# Altium integrated library TI Power Management Power Modules.IntLib: 831 symbols (part 22 of 44)
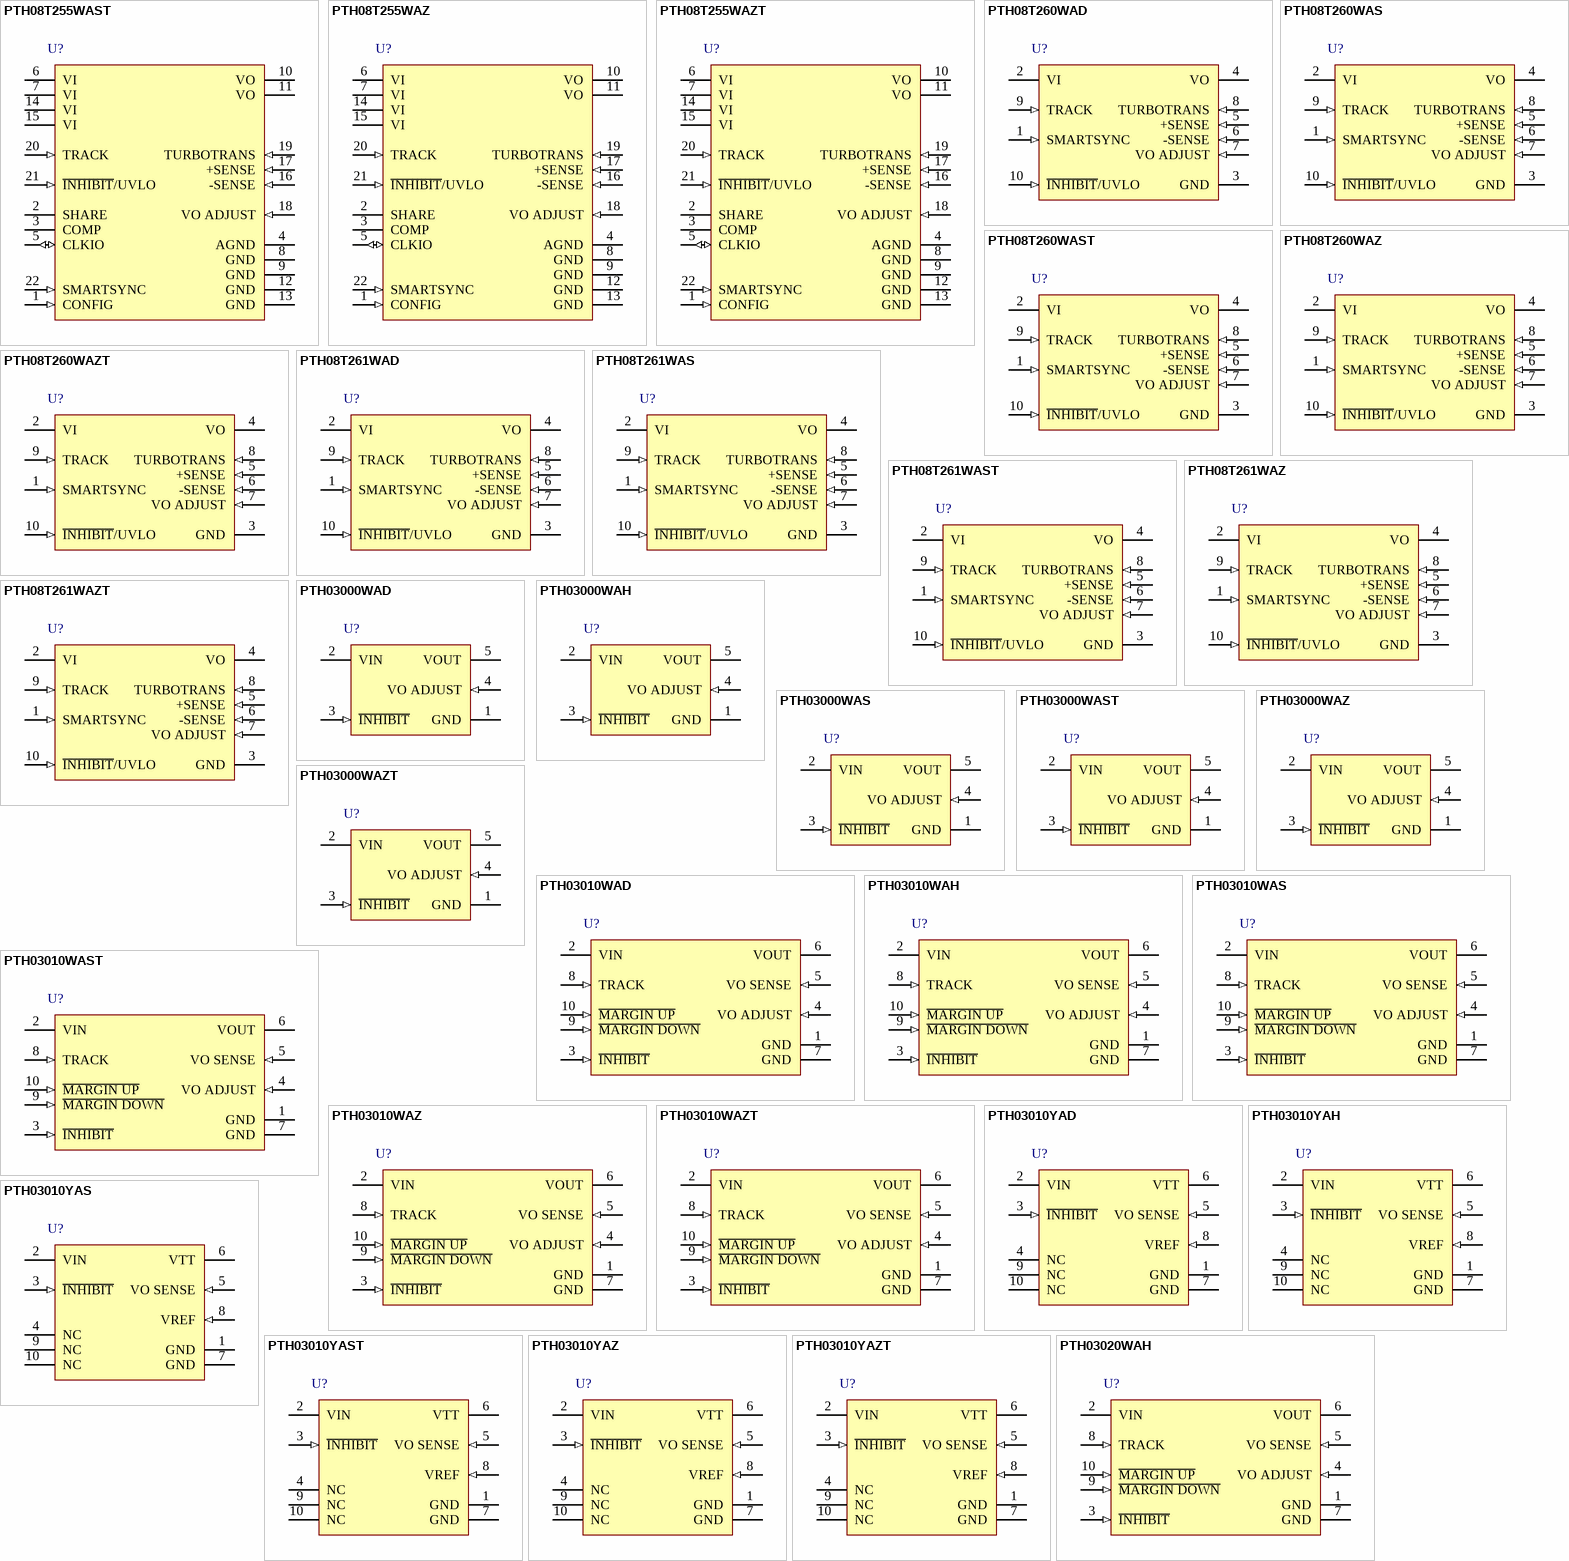
[diagram p44: symbols PTH08T255WAST to PTH03020WAH]

## PTH03010WAST
designator U?
15 A, 3.3 V Input Non-Isolated Wide-Output Adjust Power Module, -40 to 85 degC, 10-pin Module (EUJ10); Manufacturer: Texas Instruments; PartNumber: PTH03010WAST; Eco-Plan: TBD; Iout(Max)(A): 15; Regulated Outputs(#): 1; SubFamily: Non-Isolated POL; Vin(Max)(V): 3.65; Vin(Min)(V): 2.95; VO Adjustable: TRUE; Vout(Max)(V): 2.5; Vout(Min)(V): 0.8; DatasheetVersion: SLTS203C; PackageVersion: 4204985-3/E; PackageReference: EUJ10; PackageDescription: 10-Pin Plastic Special Shape, Body 15.75 x 34.8 mm; Supplier 1: Digi-Key; Supplier Part Number 1: PTH03010WAST-ND; Supplier 2: Newark; Supplier Part Number 2: 01J0622; Supplier 3: Mouser; Supplier Part Number 3: 595-PTH03010WAST; Mounting Technology: Surface Mount; ComponentLink1Description: Manufacturer URL; ComponentLink1URL: http://www.ti.com/; ComponentLink2Description: Datasheet; ComponentLink2URL: http://www.ti.com/general/docs/lit/getliterature.tsp?genericPartNumber=PTH03010W&fileType=pdf; ComponentLink3Description: Package Specification; ComponentLink3URL: http://www.ti.com/lit/ml/mpds136d/mpds136d.pdf; ComponentLink4Description: URL Link1; ComponentLink4URL: Samples URL:http://www.ti.com/product/pth03010w#samples
footprint TI-EUJ10_V (10-Leads Double Sided Module, Body 34.8x15.75mm)
pins: 1 GND (power) "This is the common ground connection for the Vin and Vout power connections. It is also the 0 VDC reference for the control inputs", 2 VIN (power) "The positive input voltage power node to the module, which is referenced to common GND.", 3 ~{INHIBIT} (in) "The Inhibit pin is an open-collector/drain negative logic input that is referenced to GND. Applying a lowlevel ground signal to this input disables the module’s output and turns off the output voltage. When the Inhibit (See Datasheet)", 4 VO ADJUST (in) "A 0.1 W 1 % resistor must be directly connected between this pin and pin 7 (GND) to set the output voltage to a value higher than 0.8 V. The temperature stability of the resistor should be 100 ppm/degreesC (or better). The (See Datasheet)", 5 VO SENSE (in) "The sense input allows the regulation circuit to compensate for voltage drop between the module and the load. For optimal voltage accuracy Vo Sense should be connected to Vout. It can also be left disconnected.", 6 VOUT (power) "The regulated positive power output with respect to the GND node.", 7 GND (power) "This is the common ground connection for the Vin and Vout power connections. It is also the 0 VDC reference for the control inputs.", 8 TRACK (in) "This is an analog control input that enables the output voltage to follow an external voltage. This pin becomes active typically 20 ms after the input voltage has been applied, and allows direct control of the output voltage (See Datasheet)", 9 ~{MARGIN DOWN} (in) "When this input is asserted to GND, the output voltage is decreased by 5% from the nominal. The input requires an open-collector (open-drain) interface. It is not TTL compatible. A lower percent change can be accomodated (See Datasheet)", 10 ~{MARGIN UP} (in) "When this input is asserted to GND, the output voltage is increased by 5%. The input requires an open-collector (open-drain) interface. It is not TTL compatible. The percent change can be reduced with a series resistor. For (See Datasheet)"

## PTH03010WAZ
designator U?
15 A, 3.3 V Input Non-Isolated Wide-Output Adjust Power Module, -40 to 85 degC, 10-pin Module (EUJ10), Pb-Free (RoHS); Manufacturer: Texas Instruments; PartNumber: PTH03010WAZ; Iout(Max)(A): 15; Regulated Outputs(#): 1; SubFamily: Non-Isolated POL; Vin(Max)(V): 3.65; Vin(Min)(V): 2.95; VO Adjustable: TRUE; Vout(Max)(V): 2.5; Vout(Min)(V): 0.8; DatasheetVersion: SLTS203C; PackageVersion: 4204985-3/E; PackageReference: EUJ10; PackageDescription: 10-Pin Plastic Special Shape, Body 15.75 x 34.8 mm; Supplier 1: Digi-Key; Supplier Part Number 1: 296-20371-ND; Supplier 2: Newark; Supplier Part Number 2: 37K0695; Supplier 3: Mouser; Supplier Part Number 3: 595-PTH03010WAZ; Eco-Plan: Pb-Free (RoHS); Mounting Technology: Surface Mount; ComponentLink1Description: Manufacturer URL; ComponentLink1URL: http://www.ti.com/; ComponentLink2Description: Datasheet; ComponentLink2URL: http://www.ti.com/general/docs/lit/getliterature.tsp?genericPartNumber=PTH03010W&fileType=pdf; ComponentLink3Description: Package Specification; ComponentLink3URL: http://www.ti.com/lit/ml/mpds136d/mpds136d.pdf; ComponentLink4Description: URL Link1; ComponentLink4URL: Samples URL:http://www.ti.com/product/pth03010w#samples
footprint TI-EUJ10_V (10-Leads Double Sided Module, Body 34.8x15.75mm)
pins: 1 GND (power) "This is the common ground connection for the Vin and Vout power connections. It is also the 0 VDC reference for the control inputs", 2 VIN (power) "The positive input voltage power node to the module, which is referenced to common GND.", 3 ~{INHIBIT} (in) "The Inhibit pin is an open-collector/drain negative logic input that is referenced to GND. Applying a lowlevel ground signal to this input disables the module’s output and turns off the output voltage. When the Inhibit (See Datasheet)", 4 VO ADJUST (in) "A 0.1 W 1 % resistor must be directly connected between this pin and pin 7 (GND) to set the output voltage to a value higher than 0.8 V. The temperature stability of the resistor should be 100 ppm/degreesC (or better). The (See Datasheet)", 5 VO SENSE (in) "The sense input allows the regulation circuit to compensate for voltage drop between the module and the load. For optimal voltage accuracy Vo Sense should be connected to Vout. It can also be left disconnected.", 6 VOUT (power) "The regulated positive power output with respect to the GND node.", 7 GND (power) "This is the common ground connection for the Vin and Vout power connections. It is also the 0 VDC reference for the control inputs.", 8 TRACK (in) "This is an analog control input that enables the output voltage to follow an external voltage. This pin becomes active typically 20 ms after the input voltage has been applied, and allows direct control of the output voltage (See Datasheet)", 9 ~{MARGIN DOWN} (in) "When this input is asserted to GND, the output voltage is decreased by 5% from the nominal. The input requires an open-collector (open-drain) interface. It is not TTL compatible. A lower percent change can be accomodated (See Datasheet)", 10 ~{MARGIN UP} (in) "When this input is asserted to GND, the output voltage is increased by 5%. The input requires an open-collector (open-drain) interface. It is not TTL compatible. The percent change can be reduced with a series resistor. For (See Datasheet)"

## PTH03010WAZT
designator U?
15 A, 3.3 V Input Non-Isolated Wide-Output Adjust Power Module, -40 to 85 degC, 10-pin Module (EUJ10), Pb-Free (RoHS); Manufacturer: Texas Instruments; PartNumber: PTH03010WAZT; Iout(Max)(A): 15; Regulated Outputs(#): 1; SubFamily: Non-Isolated POL; Vin(Max)(V): 3.65; Vin(Min)(V): 2.95; VO Adjustable: TRUE; Vout(Max)(V): 2.5; Vout(Min)(V): 0.8; DatasheetVersion: SLTS203C; PackageVersion: 4204985-3/E; PackageReference: EUJ10; PackageDescription: 10-Pin Plastic Special Shape, Body 15.75 x 34.8 mm; Supplier 1: Digi-Key; Supplier Part Number 1: PTH03010WAZT-ND; Supplier 2: Newark; Supplier Part Number 2: 37K0696; Supplier 3: Mouser; Supplier Part Number 3: 595-PTH03010WAZT; Eco-Plan: Pb-Free (RoHS); Mounting Technology: Surface Mount; ComponentLink1Description: Manufacturer URL; ComponentLink1URL: http://www.ti.com/; ComponentLink2Description: Datasheet; ComponentLink2URL: http://www.ti.com/general/docs/lit/getliterature.tsp?genericPartNumber=PTH03010W&fileType=pdf; ComponentLink3Description: Package Specification; ComponentLink3URL: http://www.ti.com/lit/ml/mpds136d/mpds136d.pdf; ComponentLink4Description: URL Link1; ComponentLink4URL: Samples URL:http://www.ti.com/product/pth03010w#samples
footprint TI-EUJ10_V (10-Leads Double Sided Module, Body 34.8x15.75mm)
pins: 1 GND (power) "This is the common ground connection for the Vin and Vout power connections. It is also the 0 VDC reference for the control inputs", 2 VIN (power) "The positive input voltage power node to the module, which is referenced to common GND.", 3 ~{INHIBIT} (in) "The Inhibit pin is an open-collector/drain negative logic input that is referenced to GND. Applying a lowlevel ground signal to this input disables the module’s output and turns off the output voltage. When the Inhibit (See Datasheet)", 4 VO ADJUST (in) "A 0.1 W 1 % resistor must be directly connected between this pin and pin 7 (GND) to set the output voltage to a value higher than 0.8 V. The temperature stability of the resistor should be 100 ppm/degreesC (or better). The (See Datasheet)", 5 VO SENSE (in) "The sense input allows the regulation circuit to compensate for voltage drop between the module and the load. For optimal voltage accuracy Vo Sense should be connected to Vout. It can also be left disconnected.", 6 VOUT (power) "The regulated positive power output with respect to the GND node.", 7 GND (power) "This is the common ground connection for the Vin and Vout power connections. It is also the 0 VDC reference for the control inputs.", 8 TRACK (in) "This is an analog control input that enables the output voltage to follow an external voltage. This pin becomes active typically 20 ms after the input voltage has been applied, and allows direct control of the output voltage (See Datasheet)", 9 ~{MARGIN DOWN} (in) "When this input is asserted to GND, the output voltage is decreased by 5% from the nominal. The input requires an open-collector (open-drain) interface. It is not TTL compatible. A lower percent change can be accomodated (See Datasheet)", 10 ~{MARGIN UP} (in) "When this input is asserted to GND, the output voltage is increased by 5%. The input requires an open-collector (open-drain) interface. It is not TTL compatible. The percent change can be reduced with a series resistor. For (See Datasheet)"

## PTH03010YAD
designator U?
15 A, 3.3 V Input Bus Termination Power Module for DDR / QDR Memory, -40 to 85 degC, 10-pin Module (EUH10), Pb-Free (RoHS); Manufacturer: Texas Instruments; PartNumber: PTH03010YAD; Iout(Max)(A): 15; Regulated Outputs(#): 1; SubFamily: Non-Isolated POL; Vin(Max)(V): 3.65; Vin(Min)(V): 2.95; Vout(Max)(V): 1.8; Vout(Min)(V): 0.55; DatasheetVersion: SLTS223A; PackageVersion: 4204984-3/E; PackageReference: EUH10; PackageDescription: 10-Pin Plastic Special Shape, Body 15.75 x 34.8 mm; Supplier 1: Digi-Key; Supplier Part Number 1: PTH03010YAD-ND; Supplier 2: Newark; Supplier Part Number 2: 58K6002; Supplier 3: Mouser; Supplier Part Number 3: 595-PTH03010YAD; Eco-Plan: Pb-Free (RoHS); Mounting Technology: Through Hole; ComponentLink1Description: Manufacturer URL; ComponentLink1URL: http://www.ti.com/; ComponentLink2Description: Datasheet; ComponentLink2URL: http://www.ti.com/general/docs/lit/getliterature.tsp?genericPartNumber=PTH03010Y&fileType=pdf; ComponentLink3Description: Package Specification; ComponentLink3URL: http://www.ti.com/litv/pdf/mpds130d; ComponentLink4Description: URL Link1; ComponentLink4URL: Samples URL:http://www.ti.com/product/pth03010y#samples
footprint TI-EUH10_V (Module, 10-Leads, Body 34.8x15.75 mm)
pins: 1 GND (power) "This is the common ground connection for the VIN and VTT power connections. It is also the 0-VDC reference for the control inputs.", 2 VIN (power) "The positive input voltage power node to the module, which is referenced to common GND.", 3 ~{INHIBIT} (in) "The Inhibit pin is an open-collector/drain negative logic input that is referenced to GND. Applying a low-level ground signal to this input turns off the output voltage, VTT. Although the module is inhibited, a voltage, VDDQ (See Datasheet)", 4 NC "No connection", 5 VO SENSE (in) "The sense input allows the regulation circuit to compensate for voltage drop between the module and the load. For optimal voltage accuracy VO SENSE should be connected to VTT.", 6 VTT (power) "This is the regulated power output from the module with respect to the GND node, and the tracking termination supply for the applicantion data and address buses.It is precisely regulated to the voltage applied to the (See Datasheet)", 7 GND (power) "This is the common ground connection for the VIN and VTT power connections. It is also the 0-VDC reference for the control inputs.", 8 VREF (in) "The module senses the voltage at this input to regulate the output voltage, VTT. The voltage at VREF is also the reference voltage for the system bus receiver comparators. It is normally set to precisely half the bus driver (See Datasheet)", 9 NC "No connection", 10 NC "No connection"

## PTH03010YAH
designator U?
15 A, 3.3 V Input Bus Termination Power Module for DDR / QDR Memory, -40 to 85 degC, 10-pin Module (EUH10), Pb-Free (RoHS); Manufacturer: Texas Instruments; PartNumber: PTH03010YAH; Iout(Max)(A): 15; Regulated Outputs(#): 1; SubFamily: Non-Isolated POL; Vin(Max)(V): 3.65; Vin(Min)(V): 2.95; Vout(Max)(V): 1.8; Vout(Min)(V): 0.55; DatasheetVersion: SLTS223A; PackageVersion: 4204984-3/E; PackageReference: EUH10; PackageDescription: 10-Pin Plastic Special Shape, Body 15.75 x 34.8 mm; Supplier 1: Digi-Key; Supplier Part Number 1: 296-20372-ND; Supplier 2: Newark; Supplier Part Number 2: 10J9538; Supplier 3: Mouser; Supplier Part Number 3: 595-PTH03010YAH; Eco-Plan: Pb-Free (RoHS); Mounting Technology: Through Hole; ComponentLink1Description: Manufacturer URL; ComponentLink1URL: http://www.ti.com/; ComponentLink2Description: Datasheet; ComponentLink2URL: http://www.ti.com/general/docs/lit/getliterature.tsp?genericPartNumber=PTH03010Y&fileType=pdf; ComponentLink3Description: Package Specification; ComponentLink3URL: http://www.ti.com/litv/pdf/mpds130d; ComponentLink4Description: URL Link1; ComponentLink4URL: Samples URL:http://www.ti.com/product/pth03010y#samples
footprint TI-EUH10_V (Module, 10-Leads, Body 34.8x15.75 mm)
pins: 1 GND (power) "This is the common ground connection for the VIN and VTT power connections. It is also the 0-VDC reference for the control inputs.", 2 VIN (power) "The positive input voltage power node to the module, which is referenced to common GND.", 3 ~{INHIBIT} (in) "The Inhibit pin is an open-collector/drain negative logic input that is referenced to GND. Applying a low-level ground signal to this input turns off the output voltage, VTT. Although the module is inhibited, a voltage, VDDQ (See Datasheet)", 4 NC "No connection", 5 VO SENSE (in) "The sense input allows the regulation circuit to compensate for voltage drop between the module and the load. For optimal voltage accuracy VO SENSE should be connected to VTT.", 6 VTT (power) "This is the regulated power output from the module with respect to the GND node, and the tracking termination supply for the applicantion data and address buses.It is precisely regulated to the voltage applied to the (See Datasheet)", 7 GND (power) "This is the common ground connection for the VIN and VTT power connections. It is also the 0-VDC reference for the control inputs.", 8 VREF (in) "The module senses the voltage at this input to regulate the output voltage, VTT. The voltage at VREF is also the reference voltage for the system bus receiver comparators. It is normally set to precisely half the bus driver (See Datasheet)", 9 NC "No connection", 10 NC "No connection"

## PTH03010YAS
designator U?
15 A, 3.3 V Input Bus Termination Power Module for DDR / QDR Memory, -40 to 85 degC, 10-pin Module (EUJ10); Manufacturer: Texas Instruments; PartNumber: PTH03010YAS; Eco-Plan: TBD; Iout(Max)(A): 15; Regulated Outputs(#): 1; SubFamily: Non-Isolated POL; Vin(Max)(V): 3.65; Vin(Min)(V): 2.95; Vout(Max)(V): 1.8; Vout(Min)(V): 0.55; DatasheetVersion: SLTS223A; PackageVersion: 4204985-3/E; PackageReference: EUJ10; PackageDescription: 10-Pin Plastic Special Shape, Body 15.75 x 34.8 mm; Supplier 1: Digi-Key; Supplier Part Number 1: 296-20373-ND; Supplier 2: Newark; Supplier Part Number 2: 10J9539; Supplier 3: Mouser; Supplier Part Number 3: 595-PTH03010YAS; Mounting Technology: Surface Mount; ComponentLink1Description: Manufacturer URL; ComponentLink1URL: http://www.ti.com/; ComponentLink2Description: Datasheet; ComponentLink2URL: http://www.ti.com/general/docs/lit/getliterature.tsp?genericPartNumber=PTH03010Y&fileType=pdf; ComponentLink3Description: Package Specification; ComponentLink3URL: http://www.ti.com/lit/ml/mpds136d/mpds136d.pdf; ComponentLink4Description: URL Link1; ComponentLink4URL: Samples URL:http://www.ti.com/product/pth03010y#samples
footprint TI-EUJ10_V (10-Leads Double Sided Module, Body 34.8x15.75mm)
pins: 1 GND (power) "This is the common ground connection for the VIN and VTT power connections. It is also the 0-VDC reference for the control inputs.", 2 VIN (power) "The positive input voltage power node to the module, which is referenced to common GND.", 3 ~{INHIBIT} (in) "The Inhibit pin is an open-collector/drain negative logic input that is referenced to GND. Applying a low-level ground signal to this input turns off the output voltage, VTT. Although the module is inhibited, a voltage, VDDQ (See Datasheet)", 4 NC "No connection", 5 VO SENSE (in) "The sense input allows the regulation circuit to compensate for voltage drop between the module and the load. For optimal voltage accuracy VO SENSE should be connected to VTT.", 6 VTT (power) "This is the regulated power output from the module with respect to the GND node, and the tracking termination supply for the applicantion data and address buses.It is precisely regulated to the voltage applied to the (See Datasheet)", 7 GND (power) "This is the common ground connection for the VIN and VTT power connections. It is also the 0-VDC reference for the control inputs.", 8 VREF (in) "The module senses the voltage at this input to regulate the output voltage, VTT. The voltage at VREF is also the reference voltage for the system bus receiver comparators. It is normally set to precisely half the bus driver (See Datasheet)", 9 NC "No connection", 10 NC "No connection"

## PTH03010YAST
designator U?
15 A, 3.3 V Input Bus Termination Power Module for DDR / QDR Memory, -40 to 85 degC, 10-pin Module (EUJ10); Manufacturer: Texas Instruments; PartNumber: PTH03010YAST; Eco-Plan: TBD; Iout(Max)(A): 15; Regulated Outputs(#): 1; SubFamily: Non-Isolated POL; Vin(Max)(V): 3.65; Vin(Min)(V): 2.95; Vout(Max)(V): 1.8; Vout(Min)(V): 0.55; DatasheetVersion: SLTS223A; PackageVersion: 4204985-3/E; PackageReference: EUJ10; PackageDescription: 10-Pin Plastic Special Shape, Body 15.75 x 34.8 mm; Supplier 1: Digi-Key; Supplier Part Number 1: PTH03010YAST-ND; Supplier 2: Mouser; Supplier Part Number 2: 595-PTH03010YAST; Mounting Technology: Surface Mount; ComponentLink1Description: Manufacturer URL; ComponentLink1URL: http://www.ti.com/; ComponentLink2Description: Datasheet; ComponentLink2URL: http://www.ti.com/general/docs/lit/getliterature.tsp?genericPartNumber=PTH03010Y&fileType=pdf; ComponentLink3Description: Package Specification; ComponentLink3URL: http://www.ti.com/lit/ml/mpds136d/mpds136d.pdf; ComponentLink4Description: URL Link1; ComponentLink4URL: Samples URL:http://www.ti.com/product/pth03010y#samples
footprint TI-EUJ10_V (10-Leads Double Sided Module, Body 34.8x15.75mm)
pins: 1 GND (power) "This is the common ground connection for the VIN and VTT power connections. It is also the 0-VDC reference for the control inputs.", 2 VIN (power) "The positive input voltage power node to the module, which is referenced to common GND.", 3 ~{INHIBIT} (in) "The Inhibit pin is an open-collector/drain negative logic input that is referenced to GND. Applying a low-level ground signal to this input turns off the output voltage, VTT. Although the module is inhibited, a voltage, VDDQ (See Datasheet)", 4 NC "No connection", 5 VO SENSE (in) "The sense input allows the regulation circuit to compensate for voltage drop between the module and the load. For optimal voltage accuracy VO SENSE should be connected to VTT.", 6 VTT (power) "This is the regulated power output from the module with respect to the GND node, and the tracking termination supply for the applicantion data and address buses.It is precisely regulated to the voltage applied to the (See Datasheet)", 7 GND (power) "This is the common ground connection for the VIN and VTT power connections. It is also the 0-VDC reference for the control inputs.", 8 VREF (in) "The module senses the voltage at this input to regulate the output voltage, VTT. The voltage at VREF is also the reference voltage for the system bus receiver comparators. It is normally set to precisely half the bus driver (See Datasheet)", 9 NC "No connection", 10 NC "No connection"

## PTH03010YAZ
designator U?
15 A, 3.3 V Input Bus Termination Power Module for DDR / QDR Memory, -40 to 85 degC, 10-pin Module (EUJ10), Pb-Free (RoHS); Manufacturer: Texas Instruments; PartNumber: PTH03010YAZ; Iout(Max)(A): 15; Regulated Outputs(#): 1; SubFamily: Non-Isolated POL; Vin(Max)(V): 3.65; Vin(Min)(V): 2.95; Vout(Max)(V): 1.8; Vout(Min)(V): 0.55; DatasheetVersion: SLTS223A; PackageVersion: 4204985-3/E; PackageReference: EUJ10; PackageDescription: 10-Pin Plastic Special Shape, Body 15.75 x 34.8 mm; Supplier 1: Digi-Key; Supplier Part Number 1: 296-20374-ND; Supplier 2: Newark; Supplier Part Number 2: 37K0697; Supplier 3: Mouser; Supplier Part Number 3: 595-PTH03010YAZ; Eco-Plan: Pb-Free (RoHS); Mounting Technology: Surface Mount; ComponentLink1Description: Manufacturer URL; ComponentLink1URL: http://www.ti.com/; ComponentLink2Description: Datasheet; ComponentLink2URL: http://www.ti.com/general/docs/lit/getliterature.tsp?genericPartNumber=PTH03010Y&fileType=pdf; ComponentLink3Description: Package Specification; ComponentLink3URL: http://www.ti.com/lit/ml/mpds136d/mpds136d.pdf; ComponentLink4Description: URL Link1; ComponentLink4URL: Samples URL:http://www.ti.com/product/pth03010y#samples
footprint TI-EUJ10_V (10-Leads Double Sided Module, Body 34.8x15.75mm)
pins: 1 GND (power) "This is the common ground connection for the VIN and VTT power connections. It is also the 0-VDC reference for the control inputs.", 2 VIN (power) "The positive input voltage power node to the module, which is referenced to common GND.", 3 ~{INHIBIT} (in) "The Inhibit pin is an open-collector/drain negative logic input that is referenced to GND. Applying a low-level ground signal to this input turns off the output voltage, VTT. Although the module is inhibited, a voltage, VDDQ (See Datasheet)", 4 NC "No connection", 5 VO SENSE (in) "The sense input allows the regulation circuit to compensate for voltage drop between the module and the load. For optimal voltage accuracy VO SENSE should be connected to VTT.", 6 VTT (power) "This is the regulated power output from the module with respect to the GND node, and the tracking termination supply for the applicantion data and address buses.It is precisely regulated to the voltage applied to the (See Datasheet)", 7 GND (power) "This is the common ground connection for the VIN and VTT power connections. It is also the 0-VDC reference for the control inputs.", 8 VREF (in) "The module senses the voltage at this input to regulate the output voltage, VTT. The voltage at VREF is also the reference voltage for the system bus receiver comparators. It is normally set to precisely half the bus driver (See Datasheet)", 9 NC "No connection", 10 NC "No connection"

## PTH03010YAZT
designator U?
15 A, 3.3 V Input Bus Termination Power Module for DDR / QDR Memory, -40 to 85 degC, 10-pin Module (EUJ10), Pb-Free (RoHS); Manufacturer: Texas Instruments; PartNumber: PTH03010YAZT; Iout(Max)(A): 15; Regulated Outputs(#): 1; SubFamily: Non-Isolated POL; Vin(Max)(V): 3.65; Vin(Min)(V): 2.95; Vout(Max)(V): 1.8; Vout(Min)(V): 0.55; DatasheetVersion: SLTS223A; PackageVersion: 4204985-3/E; PackageReference: EUJ10; PackageDescription: 10-Pin Plastic Special Shape, Body 15.75 x 34.8 mm; Supplier 1: Digi-Key; Supplier Part Number 1: PTH03010YAZT-ND; Supplier 2: Mouser; Supplier Part Number 2: 595-PTH03010YAZT; Eco-Plan: Pb-Free (RoHS); Mounting Technology: Surface Mount; ComponentLink1Description: Manufacturer URL; ComponentLink1URL: http://www.ti.com/; ComponentLink2Description: Datasheet; ComponentLink2URL: http://www.ti.com/general/docs/lit/getliterature.tsp?genericPartNumber=PTH03010Y&fileType=pdf; ComponentLink3Description: Package Specification; ComponentLink3URL: http://www.ti.com/lit/ml/mpds136d/mpds136d.pdf; ComponentLink4Description: URL Link1; ComponentLink4URL: Samples URL:http://www.ti.com/product/pth03010y#samples
footprint TI-EUJ10_V (10-Leads Double Sided Module, Body 34.8x15.75mm)
pins: 1 GND (power) "This is the common ground connection for the VIN and VTT power connections. It is also the 0-VDC reference for the control inputs.", 2 VIN (power) "The positive input voltage power node to the module, which is referenced to common GND.", 3 ~{INHIBIT} (in) "The Inhibit pin is an open-collector/drain negative logic input that is referenced to GND. Applying a low-level ground signal to this input turns off the output voltage, VTT. Although the module is inhibited, a voltage, VDDQ (See Datasheet)", 4 NC "No connection", 5 VO SENSE (in) "The sense input allows the regulation circuit to compensate for voltage drop between the module and the load. For optimal voltage accuracy VO SENSE should be connected to VTT.", 6 VTT (power) "This is the regulated power output from the module with respect to the GND node, and the tracking termination supply for the applicantion data and address buses.It is precisely regulated to the voltage applied to the (See Datasheet)", 7 GND (power) "This is the common ground connection for the VIN and VTT power connections. It is also the 0-VDC reference for the control inputs.", 8 VREF (in) "The module senses the voltage at this input to regulate the output voltage, VTT. The voltage at VREF is also the reference voltage for the system bus receiver comparators. It is normally set to precisely half the bus driver (See Datasheet)", 9 NC "No connection", 10 NC "No connection"

## PTH03020WAH
designator U?
22 A, 3.3 V Input Wide-Output Adjust Plug-in Power Module, -40 to 85 degC, 10-pin Module (EUK10), Pb-Free (RoHS); Manufacturer: Texas Instruments; PartNumber: PTH03020WAH; Iout(Max)(A): 22; Regulated Outputs(#): 1; SubFamily: Non-Isolated POL; Vin(Max)(V): 3.65; Vin(Min)(V): 2.95; VO Adjustable: TRUE; Vout(Max)(V): 2.5; Vout(Min)(V): 0.8; DatasheetVersion: SLTS206C; PackageVersion: 4204986-3/C; PackageReference: EUK10; PackageDescription: 10-Pin Plastic Special Shape, Body 22.1 x 37.97 mm; Supplier 1: Digi-Key; Supplier Part Number 1: 296-20375-ND; Supplier 2: Newark; Supplier Part Number 2: 87H2505; Supplier 3: Mouser; Supplier Part Number 3: 595-PTH03020WAH; Eco-Plan: Pb-Free (RoHS); Mounting Technology: Through Hole; ComponentLink1Description: Manufacturer URL; ComponentLink1URL: http://www.ti.com/; ComponentLink2Description: Datasheet; ComponentLink2URL: http://www.ti.com/general/docs/lit/getliterature.tsp?genericPartNumber=PTH03020W&fileType=pdf; ComponentLink3Description: Package Specification; ComponentLink3URL: http://www.ti.com/litv/pdf/mpds137b; ComponentLink4Description: URL Link1; ComponentLink4URL: Samples URL:http://www.ti.com/product/pth03020w#samples
footprint TI-EUK10_V (Module, 10-Leads, Body 37.97x22.1mm)
pins: 1 GND (power) "This is the common ground connection for the Vin and Vout power connections. It is also the 0 VDC reference for the control inputs", 2 VIN (power) "The positive input voltage power node to the module, which is referenced to common GND.", 3 ~{INHIBIT} (in) "The Inhibit pin is an open-collector/drain negative logic input that is referenced to GND. Applying a lowlevel ground signal to this input disables the module’s output and turns off the output voltage. When the Inhibit (See Datasheet)", 4 VO ADJUST (in) "A 0.1 W 1 % resistor must be directly connected between this pin and pin 7 (GND) to set the output voltage to a value higher than 0.8 V. The temperature stability of the resistor should be 100 ppm/degreesC (or better). The (See Datasheet)", 5 VO SENSE (in) "The sense input allows the regulation circuit to compensate for voltage drop between the module and the load. For optimal voltage accuracy Vo Sense should be connected to Vout. It can also be left disconnected.", 6 VOUT (power) "The regulated positive power output with respect to the GND node.", 7 GND (power) "This is the common ground connection for the Vin and Vout power connections. It is also the 0 VDC reference for the control inputs.", 8 TRACK (in) "This is an analog control input that enables the output voltage to follow an external voltage. This pin becomes active typically 20 ms after the input voltage has been applied, and allows direct control of the output voltage (See Datasheet)", 9 ~{MARGIN DOWN} (in) "When this input is asserted to GND, the output voltage is decreased by 5% from the nominal. The input requires an open-collector (open-drain) interface. It is not TTL compatible. A lower percent change can be accomodated (See Datasheet)", 10 ~{MARGIN UP} (in) "When this input is asserted to GND, the output voltage is increased by 5%. The input requires an open-collector (open-drain) interface. It is not TTL compatible. The percent change can be reduced with a series resistor. For (See Datasheet)"

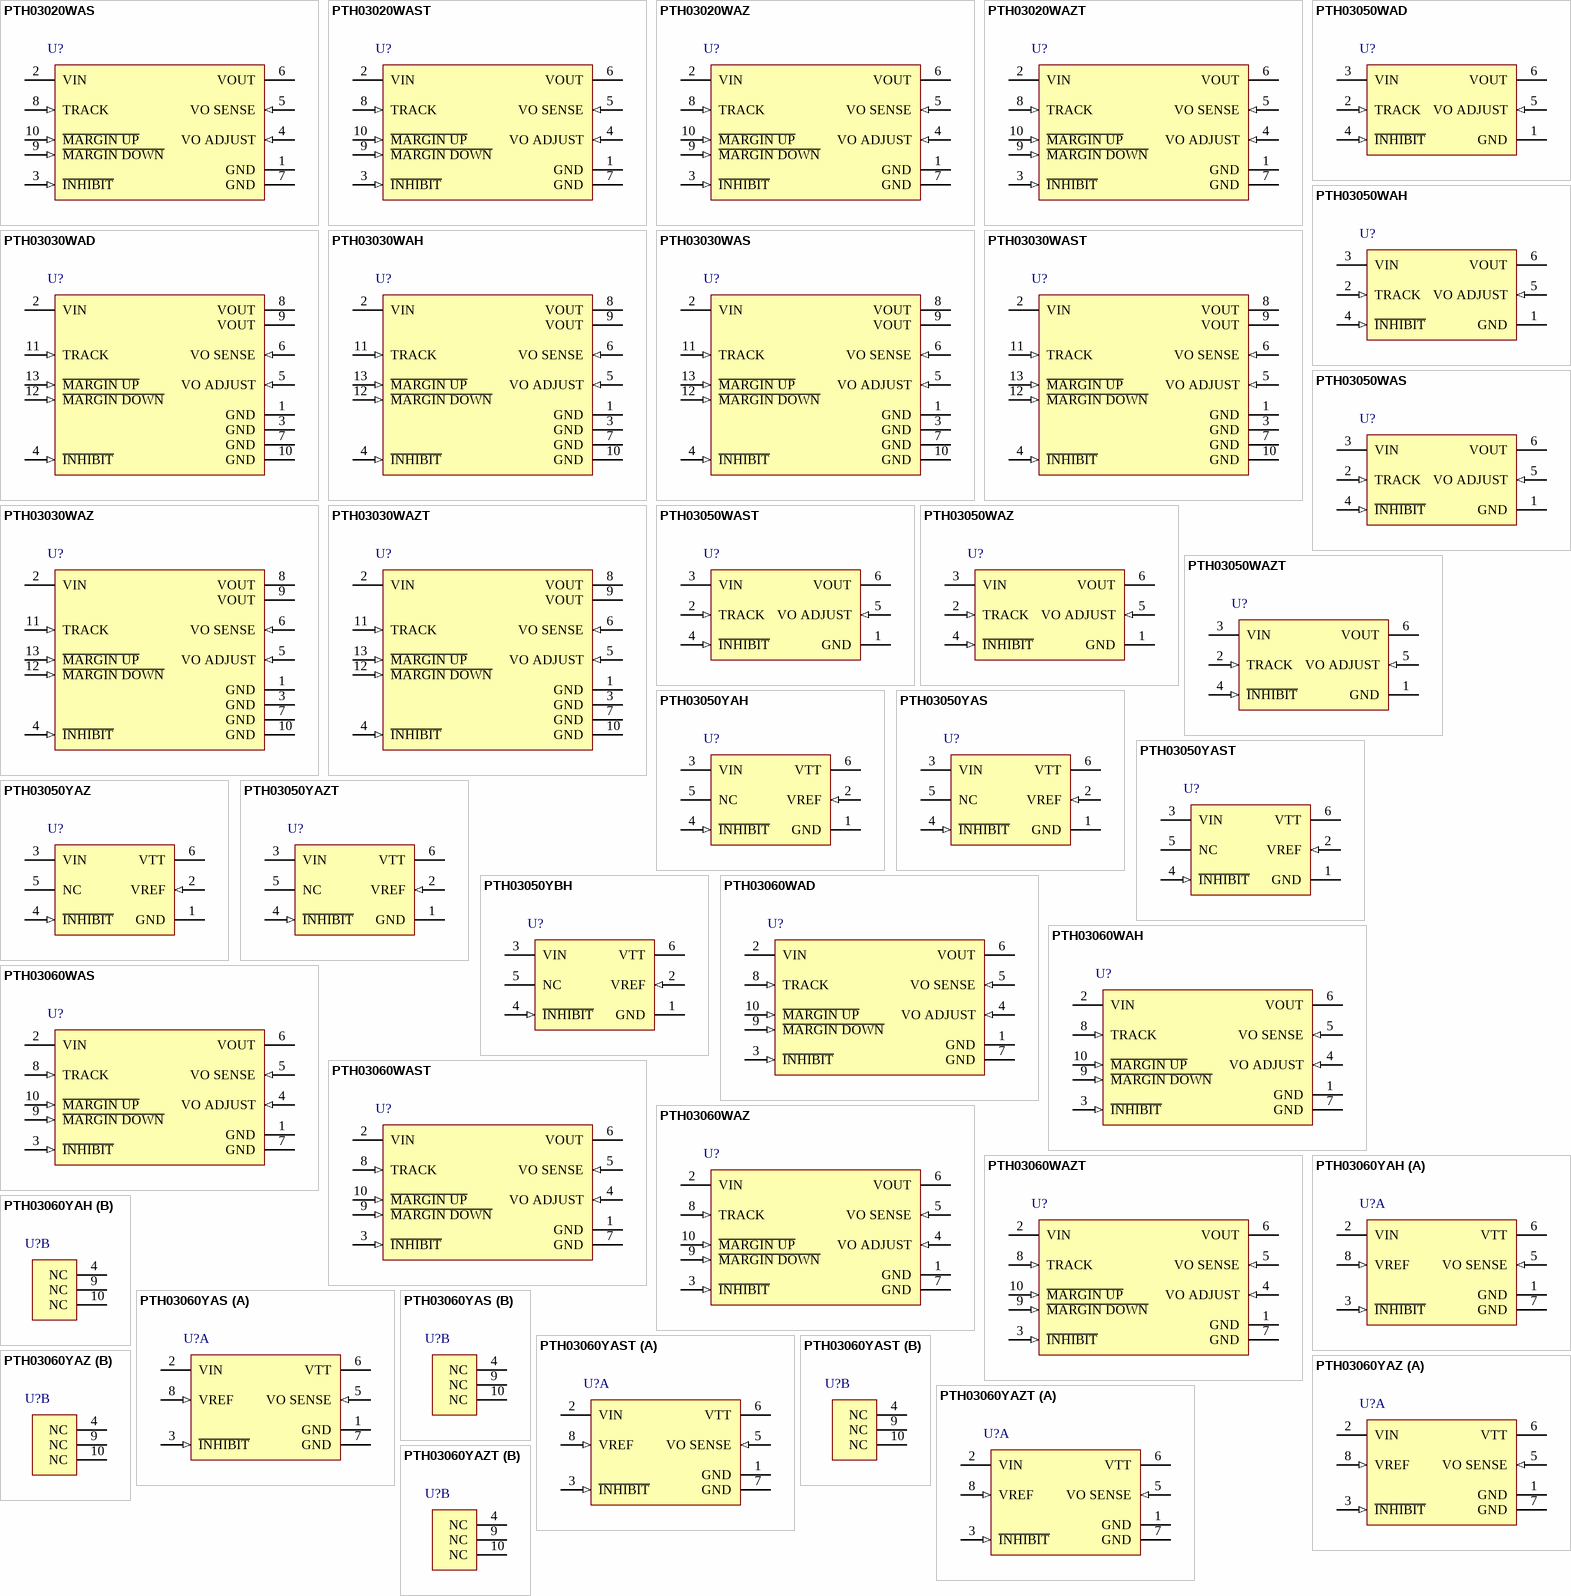
[diagram p13: symbols PTH03020WAS to PTH03060YAZT]

## PTH03020WAS
designator U?
22 A, 3.3 V Input Wide-Output Adjust Plug-in Power Module, -40 to 85 degC, 10-pin Module (EUL10); Manufacturer: Texas Instruments; PartNumber: PTH03020WAS; Eco-Plan: TBD; Iout(Max)(A): 22; Regulated Outputs(#): 1; SubFamily: Non-Isolated POL; Vin(Max)(V): 3.65; Vin(Min)(V): 2.95; VO Adjustable: TRUE; Vout(Max)(V): 2.5; Vout(Min)(V): 0.8; DatasheetVersion: SLTS206C; PackageVersion: 4204987-3/C; PackageReference: EUL10; PackageDescription: 10-Pin Plastic Special Shape, Body 22.1 x 37.97 mm; Supplier 1: Digi-Key; Supplier Part Number 1: 296-20376-ND; Supplier 2: Newark; Supplier Part Number 2: 87H2506; Supplier 3: Mouser; Supplier Part Number 3: 595-PTH03020WAS; Mounting Technology: Surface Mount; ComponentLink1Description: Manufacturer URL; ComponentLink1URL: http://www.ti.com/; ComponentLink2Description: Datasheet; ComponentLink2URL: http://www.ti.com/general/docs/lit/getliterature.tsp?genericPartNumber=PTH03020W&fileType=pdf; ComponentLink3Description: Package Specification; ComponentLink3URL: http://www.ti.com/lit/ml/mpds138b/mpds138b.pdf; ComponentLink4Description: URL Link1; ComponentLink4URL: Samples URL:http://www.ti.com/product/pth03020w#samples
footprint TI-EUL10_V (Module, 10-Leads, Body 37.97x22.1 mm)
pins: 1 GND (power) "This is the common ground connection for the Vin and Vout power connections. It is also the 0 VDC reference for the control inputs", 2 VIN (power) "The positive input voltage power node to the module, which is referenced to common GND.", 3 ~{INHIBIT} (in) "The Inhibit pin is an open-collector/drain negative logic input that is referenced to GND. Applying a lowlevel ground signal to this input disables the module’s output and turns off the output voltage. When the Inhibit (See Datasheet)", 4 VO ADJUST (in) "A 0.1 W 1 % resistor must be directly connected between this pin and pin 7 (GND) to set the output voltage to a value higher than 0.8 V. The temperature stability of the resistor should be 100 ppm/degreesC (or better). The (See Datasheet)", 5 VO SENSE (in) "The sense input allows the regulation circuit to compensate for voltage drop between the module and the load. For optimal voltage accuracy Vo Sense should be connected to Vout. It can also be left disconnected.", 6 VOUT (power) "The regulated positive power output with respect to the GND node.", 7 GND (power) "This is the common ground connection for the Vin and Vout power connections. It is also the 0 VDC reference for the control inputs.", 8 TRACK (in) "This is an analog control input that enables the output voltage to follow an external voltage. This pin becomes active typically 20 ms after the input voltage has been applied, and allows direct control of the output voltage (See Datasheet)", 9 ~{MARGIN DOWN} (in) "When this input is asserted to GND, the output voltage is decreased by 5% from the nominal. The input requires an open-collector (open-drain) interface. It is not TTL compatible. A lower percent change can be accomodated (See Datasheet)", 10 ~{MARGIN UP} (in) "When this input is asserted to GND, the output voltage is increased by 5%. The input requires an open-collector (open-drain) interface. It is not TTL compatible. The percent change can be reduced with a series resistor. For (See Datasheet)"

## PTH03020WAST
designator U?
22 A, 3.3 V Input Wide-Output Adjust Plug-in Power Module, -40 to 85 degC, 10-pin Module (EUL10); Manufacturer: Texas Instruments; PartNumber: PTH03020WAST; Eco-Plan: TBD; Iout(Max)(A): 22; Regulated Outputs(#): 1; SubFamily: Non-Isolated POL; Vin(Max)(V): 3.65; Vin(Min)(V): 2.95; VO Adjustable: TRUE; Vout(Max)(V): 2.5; Vout(Min)(V): 0.8; DatasheetVersion: SLTS206C; PackageVersion: 4204987-3/C; PackageReference: EUL10; PackageDescription: 10-Pin Plastic Special Shape, Body 22.1 x 37.97 mm; Supplier 1: Digi-Key; Supplier Part Number 1: PTH03020WAST-ND; Supplier 2: Newark; Supplier Part Number 2: 01J0623; Supplier 3: Mouser; Supplier Part Number 3: 595-PTH03020WAST; Mounting Technology: Surface Mount; ComponentLink1Description: Manufacturer URL; ComponentLink1URL: http://www.ti.com/; ComponentLink2Description: Datasheet; ComponentLink2URL: http://www.ti.com/general/docs/lit/getliterature.tsp?genericPartNumber=PTH03020W&fileType=pdf; ComponentLink3Description: Package Specification; ComponentLink3URL: http://www.ti.com/lit/ml/mpds138b/mpds138b.pdf; ComponentLink4Description: URL Link1; ComponentLink4URL: Samples URL:http://www.ti.com/product/pth03020w#samples
footprint TI-EUL10_V (Module, 10-Leads, Body 37.97x22.1 mm)
pins: 1 GND (power) "This is the common ground connection for the Vin and Vout power connections. It is also the 0 VDC reference for the control inputs", 2 VIN (power) "The positive input voltage power node to the module, which is referenced to common GND.", 3 ~{INHIBIT} (in) "The Inhibit pin is an open-collector/drain negative logic input that is referenced to GND. Applying a lowlevel ground signal to this input disables the module’s output and turns off the output voltage. When the Inhibit (See Datasheet)", 4 VO ADJUST (in) "A 0.1 W 1 % resistor must be directly connected between this pin and pin 7 (GND) to set the output voltage to a value higher than 0.8 V. The temperature stability of the resistor should be 100 ppm/degreesC (or better). The (See Datasheet)", 5 VO SENSE (in) "The sense input allows the regulation circuit to compensate for voltage drop between the module and the load. For optimal voltage accuracy Vo Sense should be connected to Vout. It can also be left disconnected.", 6 VOUT (power) "The regulated positive power output with respect to the GND node.", 7 GND (power) "This is the common ground connection for the Vin and Vout power connections. It is also the 0 VDC reference for the control inputs.", 8 TRACK (in) "This is an analog control input that enables the output voltage to follow an external voltage. This pin becomes active typically 20 ms after the input voltage has been applied, and allows direct control of the output voltage (See Datasheet)", 9 ~{MARGIN DOWN} (in) "When this input is asserted to GND, the output voltage is decreased by 5% from the nominal. The input requires an open-collector (open-drain) interface. It is not TTL compatible. A lower percent change can be accomodated (See Datasheet)", 10 ~{MARGIN UP} (in) "When this input is asserted to GND, the output voltage is increased by 5%. The input requires an open-collector (open-drain) interface. It is not TTL compatible. The percent change can be reduced with a series resistor. For (See Datasheet)"

## PTH03020WAZ
designator U?
22 A, 3.3 V Input Wide-Output Adjust Plug-in Power Module, -40 to 85 degC, 10-pin Module (EUL10), Pb-Free (RoHS); Manufacturer: Texas Instruments; PartNumber: PTH03020WAZ; Iout(Max)(A): 22; Regulated Outputs(#): 1; SubFamily: Non-Isolated POL; Vin(Max)(V): 3.65; Vin(Min)(V): 2.95; VO Adjustable: TRUE; Vout(Max)(V): 2.5; Vout(Min)(V): 0.8; DatasheetVersion: SLTS206C; PackageVersion: 4204987-3/C; PackageReference: EUL10; PackageDescription: 10-Pin Plastic Special Shape, Body 22.1 x 37.97 mm; Supplier 1: Digi-Key; Supplier Part Number 1: 296-20377-ND; Supplier 2: Newark; Supplier Part Number 2: 37K0699; Supplier 3: Mouser; Supplier Part Number 3: 595-PTH03020WAZ; Eco-Plan: Pb-Free (RoHS); Mounting Technology: Surface Mount; ComponentLink1Description: Manufacturer URL; ComponentLink1URL: http://www.ti.com/; ComponentLink2Description: Datasheet; ComponentLink2URL: http://www.ti.com/general/docs/lit/getliterature.tsp?genericPartNumber=PTH03020W&fileType=pdf; ComponentLink3Description: Package Specification; ComponentLink3URL: http://www.ti.com/lit/ml/mpds138b/mpds138b.pdf; ComponentLink4Description: URL Link1; ComponentLink4URL: Samples URL:http://www.ti.com/product/pth03020w#samples
footprint TI-EUL10_V (Module, 10-Leads, Body 37.97x22.1 mm)
pins: 1 GND (power) "This is the common ground connection for the Vin and Vout power connections. It is also the 0 VDC reference for the control inputs", 2 VIN (power) "The positive input voltage power node to the module, which is referenced to common GND.", 3 ~{INHIBIT} (in) "The Inhibit pin is an open-collector/drain negative logic input that is referenced to GND. Applying a lowlevel ground signal to this input disables the module’s output and turns off the output voltage. When the Inhibit (See Datasheet)", 4 VO ADJUST (in) "A 0.1 W 1 % resistor must be directly connected between this pin and pin 7 (GND) to set the output voltage to a value higher than 0.8 V. The temperature stability of the resistor should be 100 ppm/degreesC (or better). The (See Datasheet)", 5 VO SENSE (in) "The sense input allows the regulation circuit to compensate for voltage drop between the module and the load. For optimal voltage accuracy Vo Sense should be connected to Vout. It can also be left disconnected.", 6 VOUT (power) "The regulated positive power output with respect to the GND node.", 7 GND (power) "This is the common ground connection for the Vin and Vout power connections. It is also the 0 VDC reference for the control inputs.", 8 TRACK (in) "This is an analog control input that enables the output voltage to follow an external voltage. This pin becomes active typically 20 ms after the input voltage has been applied, and allows direct control of the output voltage (See Datasheet)", 9 ~{MARGIN DOWN} (in) "When this input is asserted to GND, the output voltage is decreased by 5% from the nominal. The input requires an open-collector (open-drain) interface. It is not TTL compatible. A lower percent change can be accomodated (See Datasheet)", 10 ~{MARGIN UP} (in) "When this input is asserted to GND, the output voltage is increased by 5%. The input requires an open-collector (open-drain) interface. It is not TTL compatible. The percent change can be reduced with a series resistor. For (See Datasheet)"

## PTH03020WAZT
designator U?
22 A, 3.3 V Input Wide-Output Adjust Plug-in Power Module, -40 to 85 degC, 10-pin Module (EUL10), Pb-Free (RoHS); Manufacturer: Texas Instruments; PartNumber: PTH03020WAZT; Iout(Max)(A): 22; Regulated Outputs(#): 1; SubFamily: Non-Isolated POL; Vin(Max)(V): 3.65; Vin(Min)(V): 2.95; VO Adjustable: TRUE; Vout(Max)(V): 2.5; Vout(Min)(V): 0.8; DatasheetVersion: SLTS206C; PackageVersion: 4204987-3/C; PackageReference: EUL10; PackageDescription: 10-Pin Plastic Special Shape, Body 22.1 x 37.97 mm; Supplier 1: Digi-Key; Supplier Part Number 1: PTH03020WAZT-ND; Supplier 2: Newark; Supplier Part Number 2: 37K0700; Supplier 3: Mouser; Supplier Part Number 3: 595-PTH03020WAZT; Eco-Plan: Pb-Free (RoHS); Mounting Technology: Surface Mount; ComponentLink1Description: Manufacturer URL; ComponentLink1URL: http://www.ti.com/; ComponentLink2Description: Datasheet; ComponentLink2URL: http://www.ti.com/general/docs/lit/getliterature.tsp?genericPartNumber=PTH03020W&fileType=pdf; ComponentLink3Description: Package Specification; ComponentLink3URL: http://www.ti.com/lit/ml/mpds138b/mpds138b.pdf; ComponentLink4Description: URL Link1; ComponentLink4URL: Samples URL:http://www.ti.com/product/pth03020w#samples
footprint TI-EUL10_V (Module, 10-Leads, Body 37.97x22.1 mm)
pins: 1 GND (power) "This is the common ground connection for the Vin and Vout power connections. It is also the 0 VDC reference for the control inputs", 2 VIN (power) "The positive input voltage power node to the module, which is referenced to common GND.", 3 ~{INHIBIT} (in) "The Inhibit pin is an open-collector/drain negative logic input that is referenced to GND. Applying a lowlevel ground signal to this input disables the module’s output and turns off the output voltage. When the Inhibit (See Datasheet)", 4 VO ADJUST (in) "A 0.1 W 1 % resistor must be directly connected between this pin and pin 7 (GND) to set the output voltage to a value higher than 0.8 V. The temperature stability of the resistor should be 100 ppm/degreesC (or better). The (See Datasheet)", 5 VO SENSE (in) "The sense input allows the regulation circuit to compensate for voltage drop between the module and the load. For optimal voltage accuracy Vo Sense should be connected to Vout. It can also be left disconnected.", 6 VOUT (power) "The regulated positive power output with respect to the GND node.", 7 GND (power) "This is the common ground connection for the Vin and Vout power connections. It is also the 0 VDC reference for the control inputs.", 8 TRACK (in) "This is an analog control input that enables the output voltage to follow an external voltage. This pin becomes active typically 20 ms after the input voltage has been applied, and allows direct control of the output voltage (See Datasheet)", 9 ~{MARGIN DOWN} (in) "When this input is asserted to GND, the output voltage is decreased by 5% from the nominal. The input requires an open-collector (open-drain) interface. It is not TTL compatible. A lower percent change can be accomodated (See Datasheet)", 10 ~{MARGIN UP} (in) "When this input is asserted to GND, the output voltage is increased by 5%. The input requires an open-collector (open-drain) interface. It is not TTL compatible. The percent change can be reduced with a series resistor. For (See Datasheet)"

## PTH03030WAD
designator U?
30 A, 3.3 V Input Wide-Output Adjust Plug-in Power Module, -40 to 85 degC, 13-pin Module (EUM13), Pb-Free (RoHS); Manufacturer: Texas Instruments; PartNumber: PTH03030WAD; Iout(Max)(A): 30; Regulated Outputs(#): 1; SubFamily: Non-Isolated POL; Vin(Max)(V): 3.65; Vin(Min)(V): 2.95; VO Adjustable: TRUE; Vout(Max)(V): 2.5; Vout(Min)(V): 0.8; DatasheetVersion: SLTS209B; PackageVersion: 4204988/B; PackageReference: EUM13; PackageDescription: 13-Pin Plastic Special Shape, Body 28.45 x 34.8 mm; Supplier 1: Digi-Key; Supplier Part Number 1: PTH03030WADTI-ND; Supplier 2: Newark; Supplier Part Number 2: 58K6003; Supplier 3: Mouser; Supplier Part Number 3: 595-PTH03030WAD; Eco-Plan: Pb-Free (RoHS); Mounting Technology: Through Hole; ComponentLink1Description: Manufacturer URL; ComponentLink1URL: http://www.ti.com/; ComponentLink2Description: Datasheet; ComponentLink2URL: http://www.ti.com/general/docs/lit/getliterature.tsp?genericPartNumber=PTH03030W&fileType=pdf; ComponentLink3Description: Package Specification; ComponentLink3URL: http://www.ti.com/litv/pdf/mpds134a; ComponentLink4Description: URL Link1; ComponentLink4URL: Samples URL:http://www.ti.com/product/pth03030w#samples
footprint TI-EUM13_V (Module, 13-Leads, Body 34.8x28.45mm)
pins: 1 GND (power) "This is the common ground connection for the Vin and Vout power connections. It is also the 0 VDC reference for the control inputs.", 2 VIN (power) "The positive input voltage power node to the module, which is referenced to common GND.", 3 GND (power) "This is the common ground connection for the Vin and Vout power connections. It is also the 0 VDC reference for the control inputs.", 4 ~{INHIBIT} (in) "The Inhibit pin is an open-collector/drain negative logic input that is referenced to GND. Applying a lowlevel ground signal to this input disables the module’s output and turns off the output voltage. When the Inhibit (See Datasheet)", 5 VO ADJUST (in) "A 0.1 W 1 % resistor must be directly connected between this pin and pin 7 (GND) to set the output voltage to a value higher than 0.8 V. The temperature stability of the resistor should be 100 ppm/degreesC (or better). The (See Datasheet)", 6 VO SENSE (in) "The sense input allows the regulation circuit to compensate for voltage drop between the module and the load. For optimal voltage accuracy Vo Sense should be connected to Vout. It can also be left disconnected.", 7 GND (power) "This is the common ground connection for the Vin and Vout power connections. It is also the 0 VDC reference for the control inputs.", 8 VOUT (power) "The regulated positive power output with respect to the GND node.", 9 VOUT (power) "The regulated positive power output with respect to the GND node.", 10 GND (power) "This is the common ground connection for the Vin and Vout power connections. It is also the 0 VDC reference for the control inputs.", 11 TRACK (in) "This is an analog control input that enables the output voltage to follow an external voltage. This pin becomes active typically 20 ms after the input voltage has been applied, and allows direct control of the output voltage (See Datasheet)", 12 ~{MARGIN DOWN} (in) "When this input is asserted to GND, the output voltage is decreased by 5% from the nominal. The input requires an open-collector (open-drain) interface. It is not TTL compatible. A lower percent change can be accomodated (See Datasheet)", 13 ~{MARGIN UP} (in) "When this input is asserted to GND, the output voltage is increased by 5%. The input requires an open-collector (open-drain) interface. It is not TTL compatible. The percent change can be reduced with a series resistor. For (See Datasheet)"

## PTH03030WAH
designator U?
30 A, 3.3 V Input Wide-Output Adjust Plug-in Power Module, -40 to 85 degC, 13-pin Module (EUM13), Pb-Free (RoHS); Manufacturer: Texas Instruments; PartNumber: PTH03030WAH; Iout(Max)(A): 30; Regulated Outputs(#): 1; SubFamily: Non-Isolated POL; Vin(Max)(V): 3.65; Vin(Min)(V): 2.95; VO Adjustable: TRUE; Vout(Max)(V): 2.5; Vout(Min)(V): 0.8; DatasheetVersion: SLTS209B; PackageVersion: 4204988/B; PackageReference: EUM13; PackageDescription: 13-Pin Plastic Special Shape, Body 28.45 x 34.8 mm; Supplier 1: Digi-Key; Supplier Part Number 1: 296-20378-ND; Supplier 2: Newark; Supplier Part Number 2: 01J0624; Supplier 3: Mouser; Supplier Part Number 3: 595-PTH03030WAH; Eco-Plan: Pb-Free (RoHS); Mounting Technology: Through Hole; ComponentLink1Description: Manufacturer URL; ComponentLink1URL: http://www.ti.com/; ComponentLink2Description: Datasheet; ComponentLink2URL: http://www.ti.com/general/docs/lit/getliterature.tsp?genericPartNumber=PTH03030W&fileType=pdf; ComponentLink3Description: Package Specification; ComponentLink3URL: http://www.ti.com/litv/pdf/mpds134a; ComponentLink4Description: URL Link1; ComponentLink4URL: Samples URL:http://www.ti.com/product/pth03030w#samples
footprint TI-EUM13_V (Module, 13-Leads, Body 34.8x28.45mm)
pins: 1 GND (power) "This is the common ground connection for the Vin and Vout power connections. It is also the 0 VDC reference for the control inputs.", 2 VIN (power) "The positive input voltage power node to the module, which is referenced to common GND.", 3 GND (power) "This is the common ground connection for the Vin and Vout power connections. It is also the 0 VDC reference for the control inputs.", 4 ~{INHIBIT} (in) "The Inhibit pin is an open-collector/drain negative logic input that is referenced to GND. Applying a lowlevel ground signal to this input disables the module’s output and turns off the output voltage. When the Inhibit (See Datasheet)", 5 VO ADJUST (in) "A 0.1 W 1 % resistor must be directly connected between this pin and pin 7 (GND) to set the output voltage to a value higher than 0.8 V. The temperature stability of the resistor should be 100 ppm/degreesC (or better). The (See Datasheet)", 6 VO SENSE (in) "The sense input allows the regulation circuit to compensate for voltage drop between the module and the load. For optimal voltage accuracy Vo Sense should be connected to Vout. It can also be left disconnected.", 7 GND (power) "This is the common ground connection for the Vin and Vout power connections. It is also the 0 VDC reference for the control inputs.", 8 VOUT (power) "The regulated positive power output with respect to the GND node.", 9 VOUT (power) "The regulated positive power output with respect to the GND node.", 10 GND (power) "This is the common ground connection for the Vin and Vout power connections. It is also the 0 VDC reference for the control inputs.", 11 TRACK (in) "This is an analog control input that enables the output voltage to follow an external voltage. This pin becomes active typically 20 ms after the input voltage has been applied, and allows direct control of the output voltage (See Datasheet)", 12 ~{MARGIN DOWN} (in) "When this input is asserted to GND, the output voltage is decreased by 5% from the nominal. The input requires an open-collector (open-drain) interface. It is not TTL compatible. A lower percent change can be accomodated (See Datasheet)", 13 ~{MARGIN UP} (in) "When this input is asserted to GND, the output voltage is increased by 5%. The input requires an open-collector (open-drain) interface. It is not TTL compatible. The percent change can be reduced with a series resistor. For (See Datasheet)"